# EAGLE library part ECOG_GENERAL_ROW (library eCogs)
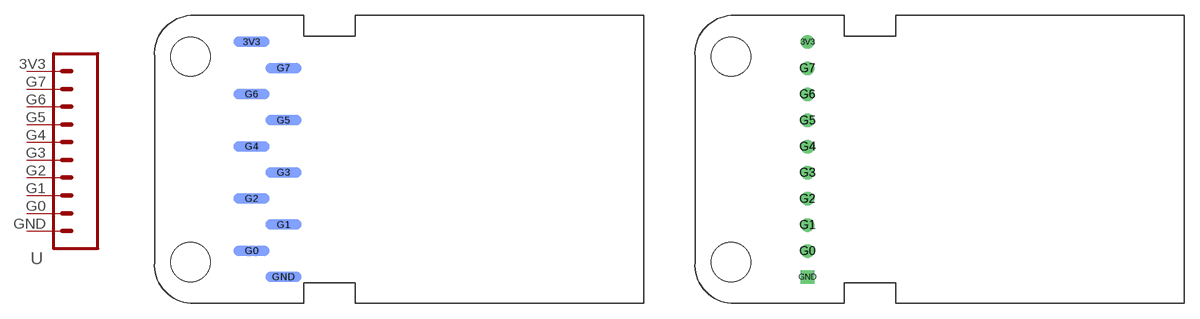
[diagram p1: symbol with the pads of ECOG_GENERAL_SMD; footprints ECOG_GENERAL_SMD, ECOG_GENERAL_TH]

Designator prefix -

## ECOG_GENERAL_ROWSURFACEMOUNT (DIGIKEY: S1013EC-10-ND)  [ECOG_GENERAL_SMD]
3V3  3V3  pwr
G0  G0  pas
G1  G1  pas
G2  G2  pas
G3  G3  pas
G4  G4  pas
G5  G5  pas
G6  G6  pas
G7  G7  pas
GND  GND  pwr

## ECOG_GENERAL_ROWTHROUGHOLE  [ECOG_GENERAL_TH]
Pads as for ECOG_GENERAL_SMD

## Footprint ECOG_GENERAL_SMD (pad centres in mm)
smd 3.5 x 1 bottom: 3V3 9.923,25.429; G0 9.923,5.111; G1 13.022,7.649; G2 9.923,10.189; G3 13.022,12.729; G4 9.923,15.269; G5 13.022,17.809; G6 9.923,20.349; G7 13.022,22.889; GND 13.022,2.571
hole 3.8 at 4,24
hole 3.8 at 4,4

## Footprint ECOG_GENERAL_TH (pad centres in mm)
drill 0.8: 3V3 11.43,25.4; G0 11.43,5.08; G1 11.43,7.62; G2 11.43,10.16; G3 11.43,12.7; G4 11.43,15.24; G5 11.43,17.78; G6 11.43,20.32; G7 11.43,22.86
drill 0.8 square: GND 11.43,2.54
hole 3.8 at 4,24
hole 3.8 at 4,4